# Altium schematic symbol library Vreg.SchLib: 6 symbols
Pins are listed as number, name and electrical type; pins without a type are passive.

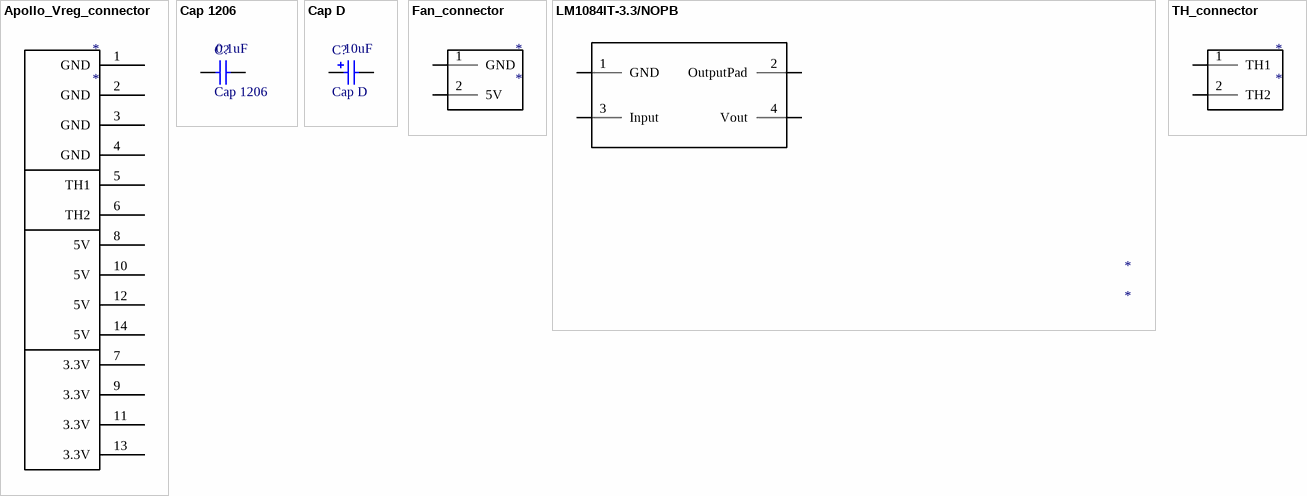
[diagram p0: symbols Apollo_Vreg_connector to TH_connector]

## Apollo_Vreg_connector
designator *
footprint Apollo_Vreg_connector (Connector; Header; 8x2 Position)
pins: 1 GND, 2 GND, 3 GND, 4 GND, 5 TH1, 6 TH2, 7 3.3V, 8 5V, 9 3.3V, 10 5V, 11 3.3V, 12 5V, 13 3.3V, 14 5V

## Cap 1206
designator C?  value 0.1uF
Capacitor (Semiconductor SIM Model); Published: 8-Jun-2000; LatestRevisionDate: 29-May-2009; LatestRevisionNote: IPC-7351 Footprint Added.; PackageReference: C1206; Publisher: Altium Limited; PackageDescription: Chip Capacitor
footprint C1206 (Chip Capacitor, Body 3.2x1.6mm, IPC High Density)
pins: 1, 2

## Cap D
designator C?  value 10uF
Polarized Capacitor (Surface Mount); Published: 8-Jun-2000; LatestRevisionDate: 29-May-2009; LatestRevisionNote: IPC-7351 Footprint Added.; PackageReference: C0805; Publisher: Altium Limited; PackageDescription: Chip Capacitor
footprint CAPCP3825X06N (Chip Capacitor, 2-Leads, Body 3,81x2,54mm, IPC Medium Density)
pins: 1, 2
1 alternate drawing of the same symbol

## Fan_connector
designator *
footprint HDR1X2 (Connector; Header; 2 Position)
pins: 1 GND, 2 5V

## LM1084IT-3.3/NOPB
designator *
footprint TO220HS
pins: 1 GND, 2 OutputPad, 3 Input, 4 Vout

## TH_connector
designator *
footprint HDR1X2 (Connector; Header; 2 Position)
pins: 1 TH1, 2 TH2